# EAGLE library part LMR38010SDDAR (library LMR38010SDDAR)
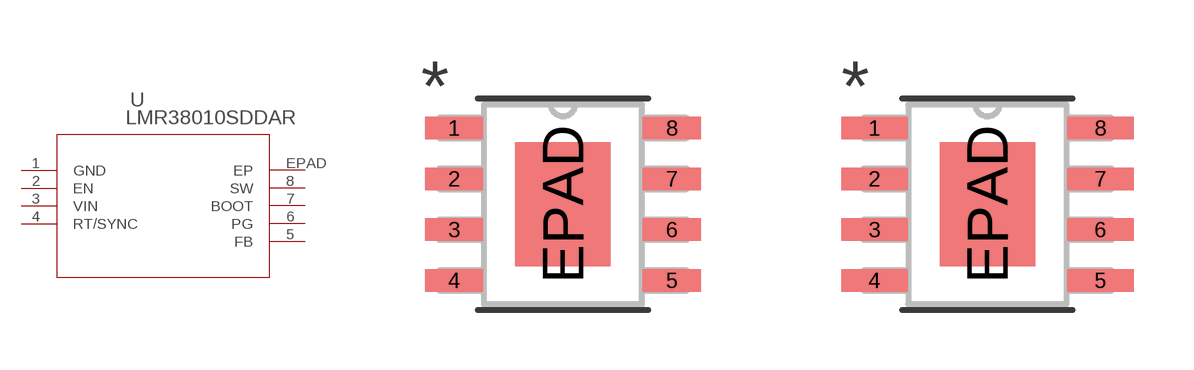
[diagram p0: symbol with the pads of LMR38010FDDAR_TEX; footprints LMR38010FDDAR_TEX, LMR38010FDDAR_TEX-M]

Designator prefix U

## LMR38010SDDAR (COPYRIGHT: Copyright (C) 2023 Ultra Librarian. All rights reserved.; MANUFACTURER_PART_NUMBER: LMR38010SDDAR; MFR_NAME: Texas Instruments)  [LMR38010FDDAR_TEX]
1  GND  pas
2  EN  pas
3  VIN  pwr
4  RT/SYNC  pas
5  FB  pas
6  PG  pas
7  BOOT  pwr
8  SW  pwr
EPAD  EP  pas

## LMR38010SDDARLMR38010FDDAR_TEX-M (COPYRIGHT: Copyright (C) 2023 Ultra Librarian. All rights reserved.; MANUFACTURER_PART_NUMBER: LMR38010SDDAR; MFR_NAME: Texas Instruments)  [LMR38010FDDAR_TEX-M]
Pads as for LMR38010FDDAR_TEX

## LMR38010SDDARLMR38010FDDAR_TEX-L (COPYRIGHT: Copyright (C) 2023 Ultra Librarian. All rights reserved.; MANUFACTURER_PART_NUMBER: LMR38010SDDAR; MFR_NAME: Texas Instruments)  [LMR38010FDDAR_TEX-L]
Pads as for LMR38010FDDAR_TEX

## Footprint LMR38010FDDAR_TEX (pad centres in mm)
smd 1.46 x 0.559: 1 -2.724,1.905; 2 -2.724,0.635; 3 -2.724,-0.635; 4 -2.724,-1.905; 5 2.724,-1.905; 6 2.724,-0.635; 7 2.724,0.635; 8 2.724,1.905
smd 2.388 x 3.099: EPAD 0,0

## Footprint LMR38010FDDAR_TEX-M (pad centres in mm)
smd 1.664 x 0.559: 1 -2.826,1.905; 2 -2.826,0.635; 3 -2.826,-0.635; 4 -2.826,-1.905; 5 2.826,-1.905; 6 2.826,-0.635; 7 2.826,0.635; 8 2.826,1.905
smd 2.388 x 3.099: EPAD 0,0

## Footprint LMR38010FDDAR_TEX-L (pad centres in mm)
smd 1.257 x 0.508: 1 -2.623,1.905; 2 -2.623,0.635; 3 -2.623,-0.635; 4 -2.623,-1.905; 5 2.623,-1.905; 6 2.623,-0.635; 7 2.623,0.635; 8 2.623,1.905
smd 2.388 x 3.099: EPAD 0,0